# EAGLE library part LM66100 (library FaBo-Diode)
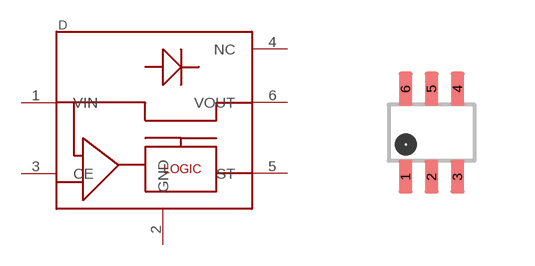
[diagram p0: symbol with the pads of SC-70; footprint SC-70]

Designator prefix D

## LM66100  [SC-70]
1  VIN
2  GND
3  CE
4  NC
5  ST
6  VOUT

## Footprint SC-70 (pad centres in mm)
smd 0.35 x 0.85: 1 -0.65,-1.1; 2 0,-1.1; 3 0.65,-1.1; 4 0.65,1.1; 5 0,1.1; 6 -0.65,1.1